# Altium schematic symbol library 330uF 35V capacitor.SchLib: 1 symbol
Pins are listed as number, name and electrical type; pins without a type are passive.

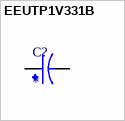
[diagram p0: symbol EEUTP1V331B]

## EEUTP1V331B
designator C?
330ÂµF 35V Aluminum Electrolytic Capacitors Radial, Can 3000 Hrs @ 125Â°C; MP: EEUTP1V331B; MF: Panasonic; Price: None; SnapEDA_Link: https://www.snapeda.com/parts/EEUTP1V331B/Panasonic/view-part/?ref=snap; Purchase-URL: https://pricing.snapeda.com/search/part/EEUTP1V331B/?ref=eda; Value: *; Availability: In Stock; Package: RADIAL-2 Panasonic; Check_prices: https://www.snapeda.com/parts/EEUTP1V331B/Panasonic/view-part/?ref=eda
footprint EEUTP1V331B (Footprint not found)
pins: N, P